# Altium footprint library helix_4_minimal_template.PcbLib: 19 footprints (part 1 of 2)
Each footprint in its own frame and in the unit in brackets; x right, y up, seen from the top. Pads: shape width x height; smd on the part's side, far side on the other; paste and mask are expansions set on the pad; w line width, h text height; cw(c..) or ccw(c..) is an arc to the next point about the centre after c.
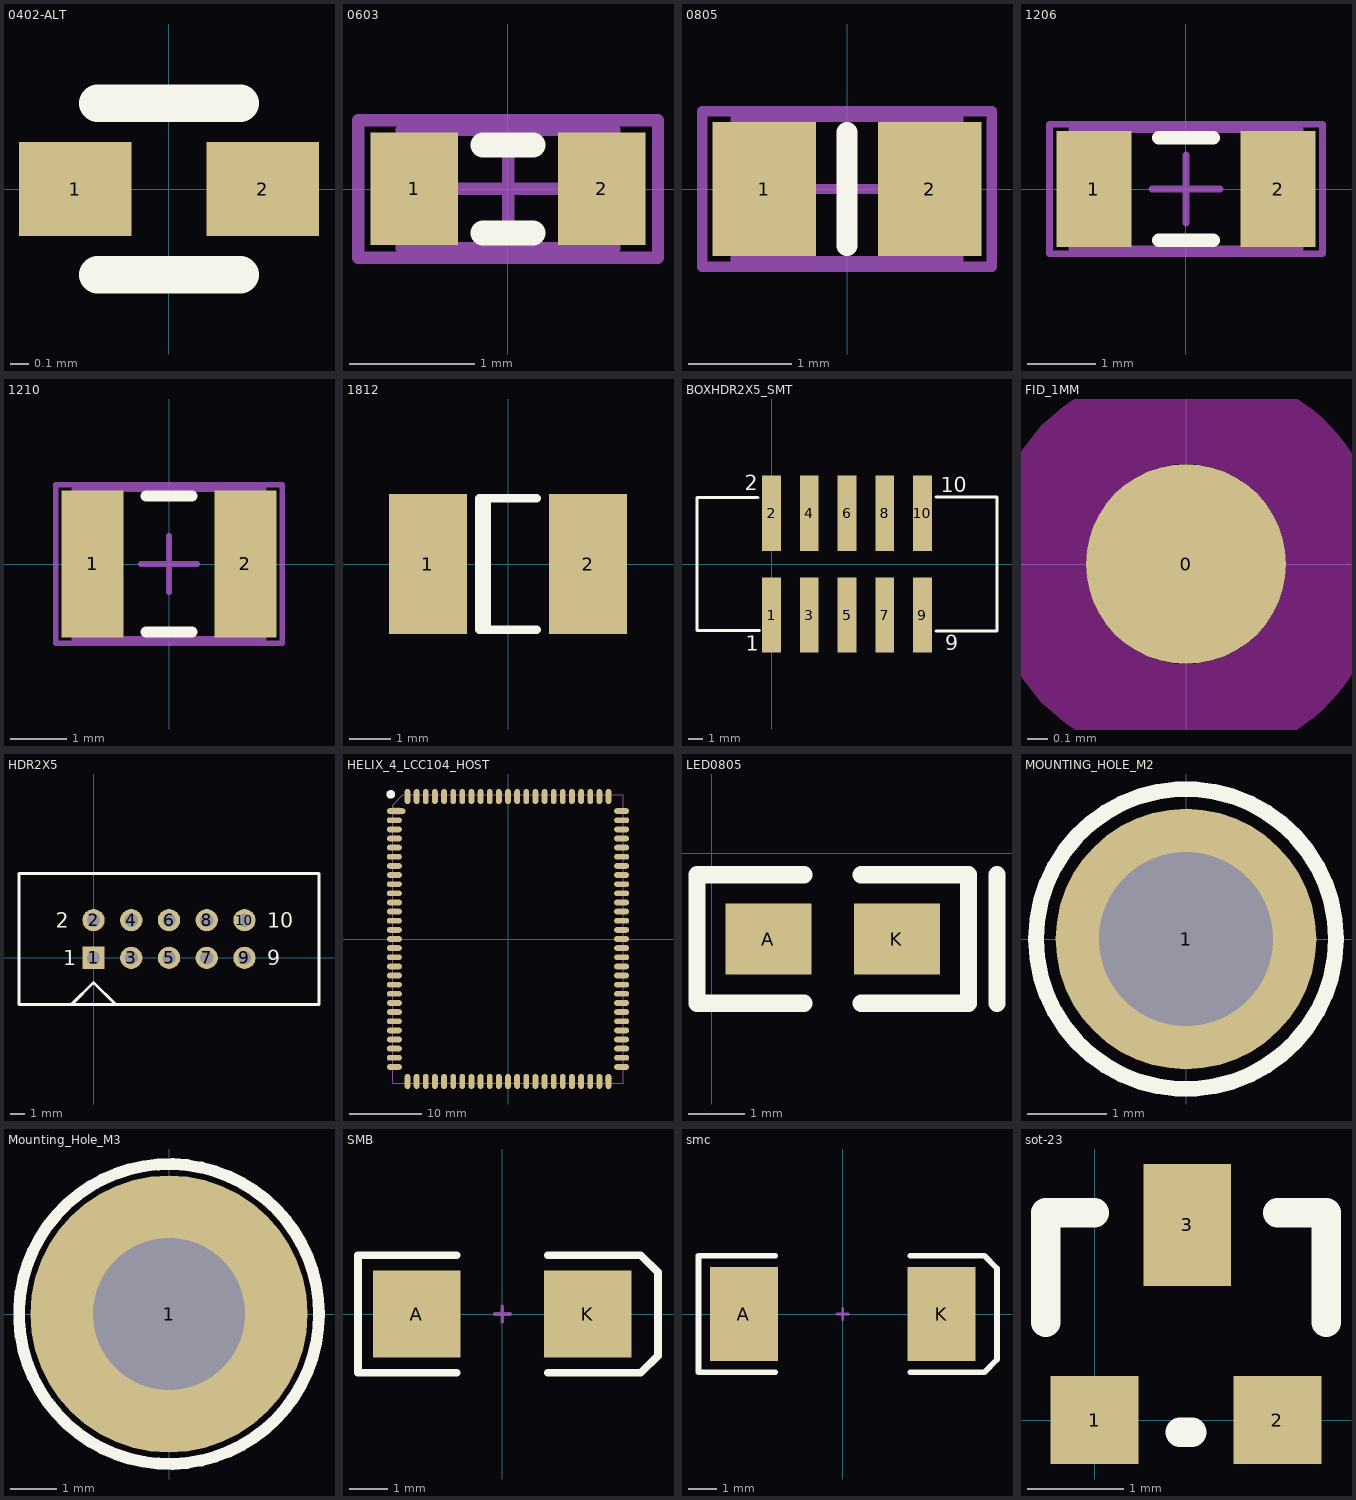
[diagram p0: the footprints below, top view; thin cyan lines are the x and y axes]

## 0402-ALT [mm] "Chip Inductor; Body 1 x 0.5 mm (LxW typ)"
height 0.55
pads (2):
  rect 0.6x0.5 smd: 1(-0.5,0) 2(0.5,0)
Top Overlay:
  lines w0.2: -0.381,-0.458 0.381,-0.458 ; -0.381,0.458 0.381,0.458

## 0603 [mm] "Chip Resistor, Body 1.6x0.8mm, IPC High Density"
height 0.6
pads (2):
  rect 0.7x0.9 smd: 1(-0.75,0) 2(0.75,0)
Top Overlay:
  lines w0.2: -0.2,-0.35 0.2,-0.35 ; -0.2,0.35 0.2,0.35
Mechanical 13:
  lines w0.1: -0.85,-0.475 -0.85,0.475 0.85,0.475 0.85,-0.475 -0.85,-0.475
Mechanical 15:
  lines w0.1: -0.475,0 0.475,0 ; 0,-0.475 0,0.475 ; -1.2,-0.55 -1.2,0.55 1.2,0.55 1.2,-0.55 -1.2,-0.55
3D body: height 0.6, standoff 0, extent -0.85,-0.475 0.85,0.475

## 0805 [mm] "Chip Resistor, Body 2.0x1.3mm, IPC High Density"
height 0.65
pads (2):
  rect 1x1.3 smd: 1(-0.8,0) 2(0.8,0)
Top Overlay:
  lines w0.2: 0,-0.55 0,0.55
Mechanical 13:
  lines w0.1: -1.075,-0.7 1.075,-0.7 1.075,0.7 -1.075,0.7 -1.075,-0.7
Mechanical 15:
  lines w0.1: -0.5,0 0.5,0 ; 0,-0.5 0,0.5 ; -1.4,-0.75 1.4,-0.75 1.4,0.75 -1.4,0.75 -1.4,-0.75
3D body: height 0.65, standoff 0, extent -1.075,-0.7 1.075,0.7

## 1206 [mm] "Chip Resistor, Body 3.2x1.6mm, IPC High Density"
height 0.71
pads (2):
  rect 1.1x1.7 smd: 1(-1.35,0) 2(1.35,0)
Top Overlay:
  lines w0.2: -0.4,-0.75 0.4,-0.75 ; -0.4,0.75 0.4,0.75
Mechanical 13:
  lines w0.1: -1.675,-0.875 -1.675,0.875 1.675,0.875 1.675,-0.875 -1.675,-0.875
Mechanical 15:
  lines w0.1: -0.5,0 0.5,0 ; 0,-0.5 0,0.5 ; -2,-0.95 -2,0.95 2,0.95 2,-0.95 -2,-0.95
3D body: height 0.71, standoff 0, extent -1.675,-0.875 1.675,0.875

## 1210 [mm] "Chip Resistor, Body 3.2x2.5mm, IPC High Density"
height 0.71
pads (2):
  rect 1.1x2.6 smd: 1(-1.35,0) 2(1.35,0)
Top Overlay:
  lines w0.2: -0.4,-1.2 0.4,-1.2 ; -0.4,1.2 0.4,1.2
Mechanical 13:
  lines w0.1: -1.675,-1.32 1.675,-1.32 1.675,1.32 -1.675,1.32 -1.675,-1.32
Mechanical 15:
  lines w0.1: -0.5,0 0.5,0 ; 0,-0.5 0,0.5 ; -2,-1.4 2,-1.4 2,1.4 -2,1.4 -2,-1.4
3D body: height 0.71, standoff 0, extent -1.675,-1.32 1.675,1.32

## 1812 [mm] "Chip Capacitor; Body 4.5 x 3.2 mm (LxW typ)"
height 1.1
pads (2):
  rect 1.9x3.4 smd: 1(-1.95,0) 2(1.95,0)
Top Overlay:
  lines w0.2: -0.51,-1.6 -0.51,1.6 ; 0.7,-1.6 -0.7,-1.6 -0.7,1.6 0.7,1.6

## BOXHDR2X5_SMT [mm] "Connector; Header; 5x2 Position"
height 2.6
pads (10):
  rect 1.27x5.08 smd: 1(0,-3.43) 2(0,3.43) 3(2.54,-3.43) 4(2.54,3.43) 5(5.08,-3.43) 6(5.08,3.43) 7(7.62,-3.43) 8(7.62,3.43) 9(10.16,-3.43) 10(10.16,3.43)
Top Overlay:
  lines w0.2: -0.919,4.476 -5.02,4.476 -5.02,-4.476 -0.807,-4.476 ; 11.079,-4.5 15.18,-4.5 15.18,4.5 11.079,4.5
  text "10" at 11.379,4.851 h1
  text "9" at 11.684,-5.817 h1
  text "1" at -1.753,-5.842 h1
  text "2" at -1.803,4.978 h1

## FID_1MM [mm]
pads (1):
  round 1 smd paste+0 mask+0: 0(0,0)
Top Layer keep-out:
  circle w0.5: c0,0 r0.75
Top Solder keep-out:
  circle w0.5: c0,0 r0.75

## HDR2X5 [mm] "Connector; Header; 5x2 Position"
pads (10):
  rect 1.5x1.5 hole 0.9: 1(0,0)
  round 1.5 hole 0.9: 2(0,2.54) 3(2.54,0) 4(2.54,2.54) 5(5.08,0) 6(5.08,2.54) 7(7.62,0) 8(7.62,2.54) 9(10.16,0) 10(10.16,2.54)
Top Overlay:
  lines w0.2: -1.438,-3.089 0,-1.651 1.479,-3.13 ; -5.02,-3.13 -5.02,5.67 15.18,5.67 15.18,-3.13 -5.02,-3.13
  text "10" at 11.684,2.032 h1
  text "9" at 11.684,-0.508 h1
  text "1" at -2.032,-0.508 h1
  text "2" at -2.54,2.032 h1

## HELIX_4_LCC104_HOST [mm] "Module socket 32x40mm"
height 2.6
pads (104):
  oval 2.6x0.813 smd: 1(-15.55,17.78)
  oval 2.1x0.813 smd: 2(-15.8,16.51) 3(-15.8,15.24) 4(-15.8,13.97) 5(-15.8,12.7) 6(-15.8,11.43) 7(-15.8,10.16) 8(-15.8,8.89) 9(-15.8,7.62) 10(-15.8,6.35) 11(-15.8,5.08) 12(-15.8,3.81) 13(-15.8,2.54) 14(-15.8,1.27) 15(-15.8,0) 16(-15.8,-1.27) 17(-15.8,-2.54) 18(-15.8,-3.81) 19(-15.8,-5.08) 20(-15.8,-6.35) 21(-15.8,-7.62) 22(-15.8,-8.89) 23(-15.8,-10.16) 24(-15.8,-11.43) 25(-15.8,-12.7) 26(-15.8,-13.97) 27(-15.8,-15.24) 28(-15.8,-16.51) 29(-15.8,-17.78) 53(15.8,-17.78) 54(15.8,-16.51) 55(15.8,-15.24) 56(15.8,-13.97) 57(15.8,-12.7) 58(15.8,-11.43) 59(15.8,-10.16) 60(15.8,-8.89) 61(15.8,-7.62) 62(15.8,-6.35) 63(15.8,-5.08) 64(15.8,-3.81) 65(15.8,-2.54) 66(15.8,-1.27) 67(15.8,0) 68(15.8,1.27) 69(15.8,2.54) 70(15.8,3.81) 71(15.8,5.08) 72(15.8,6.35) 73(15.8,7.62) 74(15.8,8.89) 75(15.8,10.16) 76(15.8,11.43) 77(15.8,12.7) 78(15.8,13.97) 79(15.8,15.24) 80(15.8,16.51) 81(15.8,17.78)
  oval 0.813x2.1 smd: 30(-13.97,-19.8) 31(-12.7,-19.8) 32(-11.43,-19.8) 33(-10.16,-19.8) 34(-8.89,-19.8) 35(-7.62,-19.8) 36(-6.35,-19.8) 37(-5.08,-19.8) 38(-3.81,-19.8) 39(-2.54,-19.8) 40(-1.27,-19.8) 41(0,-19.8) 42(1.27,-19.8) 43(2.54,-19.8) 44(3.81,-19.8) 45(5.08,-19.8) 46(6.35,-19.8) 47(7.62,-19.8) 48(8.89,-19.8) 49(10.16,-19.8) 50(11.43,-19.8) 51(12.7,-19.8) 52(13.97,-19.8) 82(13.97,19.8) 83(12.7,19.8) 84(11.43,19.8) 85(10.16,19.8) 86(8.89,19.8) 87(7.62,19.8) 88(6.35,19.8) 89(5.08,19.8) 90(3.81,19.8) 91(2.54,19.8) 92(1.27,19.8) 93(0,19.8) 94(-1.27,19.8) 95(-2.54,19.8) 96(-3.81,19.8) 97(-5.08,19.8) 98(-6.35,19.8) 99(-7.62,19.8) 100(-8.89,19.8) 101(-10.16,19.8) 102(-11.43,19.8) 103(-12.7,19.8) 104(-13.97,19.8)
Top Overlay:
  circle w0.6: c-16.3,20.1 r0.3
Mechanical 13:
  lines w0.1: -16.05,17.425 -15.05,17.425 -15.05,18.225 -16.05,18.225 ; 13.575,-19.05 13.575,-19.8 14.375,-19.05 14.375,-19.8 ; -16.05,-20.05 16.05,-20.05 16.05,20.05 -14.6,20.05 -16.05,18.6 -16.05,-20.05

## LED0805 [mil]
height 78.74
pads (2):
  rect 60x50 smd: A(39.76,-59.88) K(129.76,-59.88)
Top Overlay:
  lines w12: 64.76,-104.88 -10.24,-104.88 -10.24,-14.88 64.76,-14.88 ; 104.76,-104.88 179.76,-104.88 179.76,-14.88 104.76,-14.88 ; 199.76,-104.88 199.76,-14.88

## MOUNTING_HOLE_M2 [mm]
pads (1):
  round 3.3 hole 2.2: 1(0,0)
Top Overlay:
  circle w0.2: c0,0 r1.9

## Mounting_Hole_M3 [mm] "Hole for M3 Screw"
height 0.01
pads (1):
  round 6 hole 3.3: 1(0,0)
Top Overlay:
  circle w0.254: c0,0 r3.25

## SMB [mm] "DO-214-AA/SMB; 2 C-Bend Leads; Body 5.3 x 3.6 mm, inc. leads (LxW)"
height 2.54
pads (2):
  rect 2.3x2.3 smd: A(-2.25,0) K(2.25,0)
Top Overlay:
  lines w0.2: -1.2,-1.55 -3.8,-1.55 -3.8,1.55 -1.2,1.55 ; 1.2,-1.55 3.65,-1.55 4.1,-1.1 4.1,1.1 3.65,1.55 1.2,1.55
Mechanical 1:
  lines w0.1: -0.2,0 0.2,0 ; 0,-0.2 0,0.2

## smc [mm] "DO-214-AB/SMC; 2 C-Bend Leads; Body 7.9 x 5.9 mm, inc. leads (LxW)"
height 2.65
pads (2):
  rect 2.4x3.3 smd: A(-3.475,0) K(3.475,0)
Top Overlay:
  lines w0.2: -2.375,-2.05 -5.075,-2.05 -5.075,2.05 -2.375,2.05 ; 2.375,-2.05 4.975,-2.05 5.425,-1.6 5.425,1.6 4.975,2.055 ; 2.375,2.05 4.975,2.05
Mechanical 1:
  lines w0.1: -0.2,0 0.2,0 ; 0,-0.2 0,0.2

## sot-23 [mil]
height 0.39
pads (3):
  rect 36x36 smd: 1(0,0) 2(75,0)
  rect 36x50 smd: 3(38,80)
Top Overlay:
  lines w12: -20,40 -20,85 0,85 ; 35,-5 40,-5 ; 75,85 95,85 95,40